# Altium footprint library STM32F407ZGT6(Mini)核心板--PCB封装库.PcbLib: 22 footprints (part 2 of 2)
Each footprint in its own frame and in the unit in brackets; x right, y up, seen from the top. Pads: shape width x height; smd on the part's side, far side on the other; paste and mask are expansions set on the pad; w line width, h text height; cw(c..) or ccw(c..) is an arc to the next point about the centre after c.
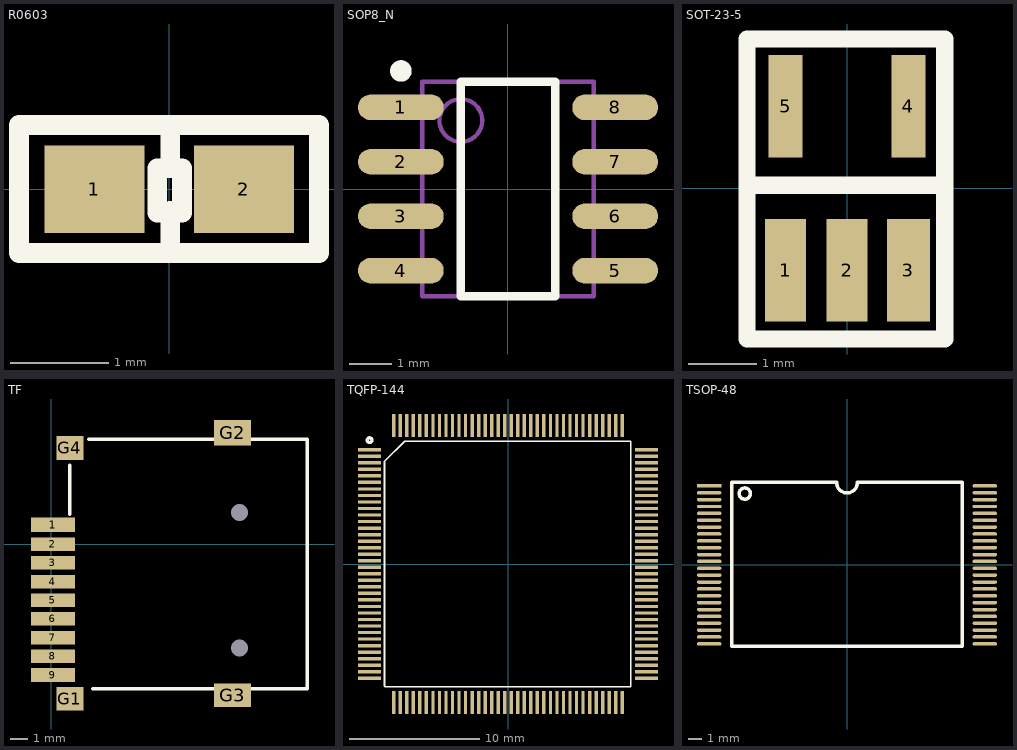
[diagram p1: the footprints below, top view; thin cyan lines are the x and y axes]

## R0603 [mil]
height 47.24
pads (2):
  rect 40x35 smd: 1(-29.92,0) 2(29.92,0)
Top Overlay:
  lines w7.87: 0.39,-21.65 0.39,-8.66 ; 0.39,9.45 0.39,21.65 ; -60.07,-25.59 59.93,-25.59 59.93,25.59 -60.07,25.59 -60.07,-25.59 ; -4.72,-9.45 -4.72,8.27 5.12,8.27 5.12,-9.45 -4.72,-9.45

## SOP8_N [mm]
height 1.75
pads (8):
  oval 2x0.6 smd: 1(-2.5,1.905) 2(-2.5,0.635) 3(-2.5,-0.635) 4(-2.5,-1.905) 5(2.5,-1.905) 6(2.5,-0.635) 7(2.5,0.635) 8(2.5,1.905)
Top Overlay:
  circle w0.25: c-2.5,2.755 r0.125
  lines w0.2: -1.1,-2.5 1.1,-2.5 1.1,2.5 -1.1,2.5 -1.1,-2.5
Mechanical 13:
  circle w0.1: c-1.1,1.6 r0.5
  lines w0.1: -2,-2.5 2,-2.5 2,2.5 -2,2.5 -2,-2.5
3D body: height 1.75, standoff 0, extent -2,-2.5 2,2.5

## SOT-23-5 [mm]
height 4.32
pads (5):
  rect 0.6x1.5 smd: 1(-0.9,-1.2) 2(0,-1.2)
  rect 0.63x1.5 smd: 3(0.9,-1.2)
  rect 0.5x1.5 smd: 4(0.9,1.2) 5(-0.9,1.2)
Top Overlay:
  lines w0.254: -1.466,0.041 1.43,0.041 ; -1.466,-2.21 1.43,-2.21 1.43,2.184 -1.466,2.184 -1.466,-2.21

## TF [mm]
pads (15):
  rect 2.6x0.85 smd: 1(0.088,1.143)
  rect 2.6x0.8 smd: 2(0.088,0.002) 3(0.088,-1.101) 4(0.088,-2.204) 5(0.088,-3.307) 6(0.088,-4.411) 7(0.088,-5.514) 8(0.088,-6.617) 9(0.088,-7.72)
  round 0 hole 1: 11(11.088,1.88) 12(11.088,-6.12)
  rect 1.6x1.4 smd: G1(1.088,-9.12) G4(1.088,5.68)
  rect 2.2x1.5 smd: G2(10.688,6.58)
  rect 2.2x1.4 smd: G3(10.688,-8.92)
Top Overlay:
  lines w0.203: 1.088,1.751 1.088,4.672 ; 2.198,6.18 15.088,6.18 15.088,-8.52 2.452,-8.52

## TQFP-144 [mm]
height 4.32
pads (144):
  rect 1.778x0.254 smd: 1(-10.6,8.75) 2(-10.6,8.25) 3(-10.6,7.75) 4(-10.6,7.25) 5(-10.6,6.75) 6(-10.6,6.25) 7(-10.6,5.75) 8(-10.6,5.25) 9(-10.6,4.75) 10(-10.6,4.25) 11(-10.6,3.75) 12(-10.6,3.25) 13(-10.6,2.75) 14(-10.6,2.25) 15(-10.6,1.75) 16(-10.6,1.25) 17(-10.6,0.75) 18(-10.6,0.25) 19(-10.6,-0.25) 20(-10.6,-0.75) 21(-10.6,-1.25) 22(-10.6,-1.75) 23(-10.6,-2.25) 24(-10.6,-2.75) 25(-10.6,-3.25) 26(-10.6,-3.75) 27(-10.6,-4.25) 28(-10.6,-4.75) 29(-10.6,-5.25) 30(-10.6,-5.75) 31(-10.6,-6.25) 32(-10.6,-6.75) 33(-10.6,-7.25) 34(-10.6,-7.75) 35(-10.6,-8.25) 36(-10.6,-8.75) 73(10.6,-8.75) 74(10.6,-8.25) 75(10.6,-7.75) 76(10.6,-7.25) 77(10.6,-6.75) 78(10.6,-6.25) 79(10.6,-5.75) 80(10.6,-5.25) 81(10.6,-4.75) 82(10.6,-4.25) 83(10.6,-3.75) 84(10.6,-3.25) 85(10.6,-2.75) 86(10.6,-2.25) 87(10.6,-1.75) 88(10.6,-1.25) 89(10.6,-0.75) 90(10.6,-0.25) 91(10.6,0.25) 92(10.6,0.75) 93(10.6,1.25) 94(10.6,1.75) 95(10.6,2.25) 96(10.6,2.75) 97(10.6,3.25) 98(10.6,3.75) 99(10.6,4.25) 100(10.6,4.75) 101(10.6,5.25) 102(10.6,5.75) 103(10.6,6.25) 104(10.6,6.75) 105(10.6,7.25) 106(10.6,7.75) 107(10.6,8.25) 108(10.6,8.75)
  rect 0.254x1.778 smd: 37(-8.75,-10.6) 38(-8.25,-10.6) 39(-7.75,-10.6) 40(-7.25,-10.6) 41(-6.75,-10.6) 42(-6.25,-10.6) 43(-5.75,-10.6) 44(-5.25,-10.6) 45(-4.75,-10.6) 46(-4.25,-10.6) 47(-3.75,-10.6) 48(-3.25,-10.6) 49(-2.75,-10.6) 50(-2.25,-10.6) 51(-1.75,-10.6) 52(-1.25,-10.6) 53(-0.75,-10.6) 54(-0.25,-10.6) 55(0.25,-10.6) 56(0.75,-10.6) 57(1.25,-10.6) 58(1.75,-10.6) 59(2.25,-10.6) 60(2.75,-10.6) 61(3.25,-10.6) 62(3.75,-10.6) 63(4.25,-10.6) 64(4.75,-10.6) 65(5.25,-10.6) 66(5.75,-10.6) 67(6.25,-10.6) 68(6.75,-10.6) 69(7.25,-10.6) 70(7.75,-10.6) 71(8.25,-10.6) 72(8.75,-10.6) 109(8.75,10.6) 110(8.25,10.6) 111(7.75,10.6) 112(7.25,10.6) 113(6.75,10.6) 114(6.25,10.6) 115(5.75,10.6) 116(5.25,10.6) 117(4.75,10.6) 118(4.25,10.6) 119(3.75,10.6) 120(3.25,10.6) 121(2.75,10.6) 122(2.25,10.6) 123(1.75,10.6) 124(1.25,10.6) 125(0.75,10.6) 126(0.25,10.6) 127(-0.25,10.6) 128(-0.75,10.6) 129(-1.25,10.6) 130(-1.75,10.6) 131(-2.25,10.6) 132(-2.75,10.6) 133(-3.25,10.6) 134(-3.75,10.6) 135(-4.25,10.6) 136(-4.75,10.6) 137(-5.25,10.6) 138(-5.75,10.6) 139(-6.25,10.6) 140(-6.75,10.6) 141(-7.25,10.6) 142(-7.75,10.6) 143(-8.25,10.6) 144(-8.75,10.6)
Top Overlay:
  circle w0.25: c-10.601,9.487 r0.178
  lines w0.127: -9.457,-9.343 -9.4,-9.4 9.4,-9.4 9.4,9.4 -7.918,9.4 -9.457,7.861 -9.457,-9.343

## TSOP-48 [mil]
height 47.24
pads (48):
  rect 70x10 smd: 1(-395,226.38)
  oval 70x10 smd: 2(-395,206.69) 3(-395,187.01) 4(-395,167.32) 5(-395,147.64) 6(-395,127.95) 7(-395,108.27) 8(-395,88.58) 9(-395,68.9) 10(-395,49.21) 11(-395,29.53) 12(-395,9.84) 13(-395,-9.84) 14(-395,-29.53) 15(-395,-49.21) 16(-395,-68.9) 17(-395,-88.58) 18(-395,-108.27) 19(-395,-127.95) 20(-395,-147.64) 21(-395,-167.32) 22(-395,-187.01) 23(-395,-206.69) 24(-395,-226.38) 25(395,-226.38) 26(395,-206.69) 27(395,-187.01) 28(395,-167.32) 29(395,-147.64) 30(395,-127.95) 31(395,-108.27) 32(395,-88.58) 33(395,-68.9) 34(395,-49.21) 35(395,-29.53) 36(395,-9.84) 37(395,9.84) 38(395,29.53) 39(395,49.21) 40(395,68.9) 41(395,88.58) 42(395,108.27) 43(395,127.95) 44(395,147.64) 45(395,167.32) 46(395,187.01) 47(395,206.69) 48(395,226.38)
Top Overlay:
  circle w10: c-293.12,204.38 r16.12
  lines w10: -330,-233.62 330,-233.62 330,236.38 29.99,236.38 cw(c-0.01,236.38) -30.01,236.38 -330,236.38 -330,-233.62